# EAGLE library part CH340K (library CH340)
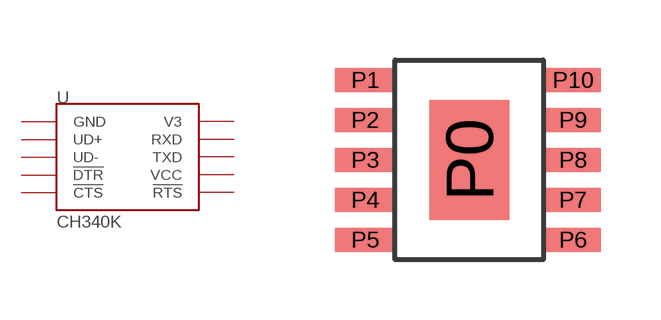
[diagram p0: symbol with the pads of ESSOP-10; footprint ESSOP-10]

Designator prefix -

## CH340K  [ESSOP-10]
P0  GND  pwr
P1  UD+
P2  UD-
P3  GND  pwr
P4  !DTR!
P5  !CTS!
P6  !RTS!
P7  VCC  pwr
P8  TXD
P9  RXD
P10  V3  pwr

## Footprint ESSOP-10 (pad centres in mm)
smd 2 x 3: P0 0,0
smd 1.5 x 0.6: P1 -2.6,2; P2 -2.6,1; P3 -2.6,0; P4 -2.6,-1; P5 -2.6,-2
smd 1.4 x 0.6: P6 2.6,-2; P7 2.6,-1; P8 2.6,0; P9 2.6,1; P10 2.6,2